# Altium schematic symbol library CONN_HDR_6X2.SchLib: 1 symbol
Pins are listed as number, name and electrical type; pins without a type are passive.

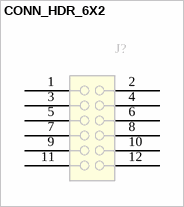
[diagram p0: symbol CONN_HDR_6X2]

## CONN_HDR_6X2
designator J?
CON 2X6 SKT RA TH 100MIL CTR 206H AU 124L
pins: 1 A1, 2 B1, 3 A2, 4 B2, 5 A3, 6 B3, 7 A4, 8 B4, 9 A5, 10 B5, 11 A6, 12 B6